# Altium schematic symbol library CONN-6-PIN.SchLib: 1 symbol
Pins are listed as number, name and electrical type; pins without a type are passive.

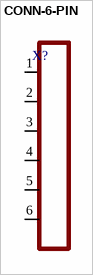
[diagram p0: symbol CONN-6-PIN]

## CONN-6-PIN
designator X?
pins: 1, 2, 3, 4, 5, 6